# Altium footprint library PCB_Lib.PcbLib: 301 footprints (part 14 of 19)
Each footprint in its own frame and in the unit in brackets; x right, y up, seen from the top. Pads: shape width x height; smd on the part's side, far side on the other; paste and mask are expansions set on the pad; w line width, h text height; cw(c..) or ccw(c..) is an arc to the next point about the centre after c.
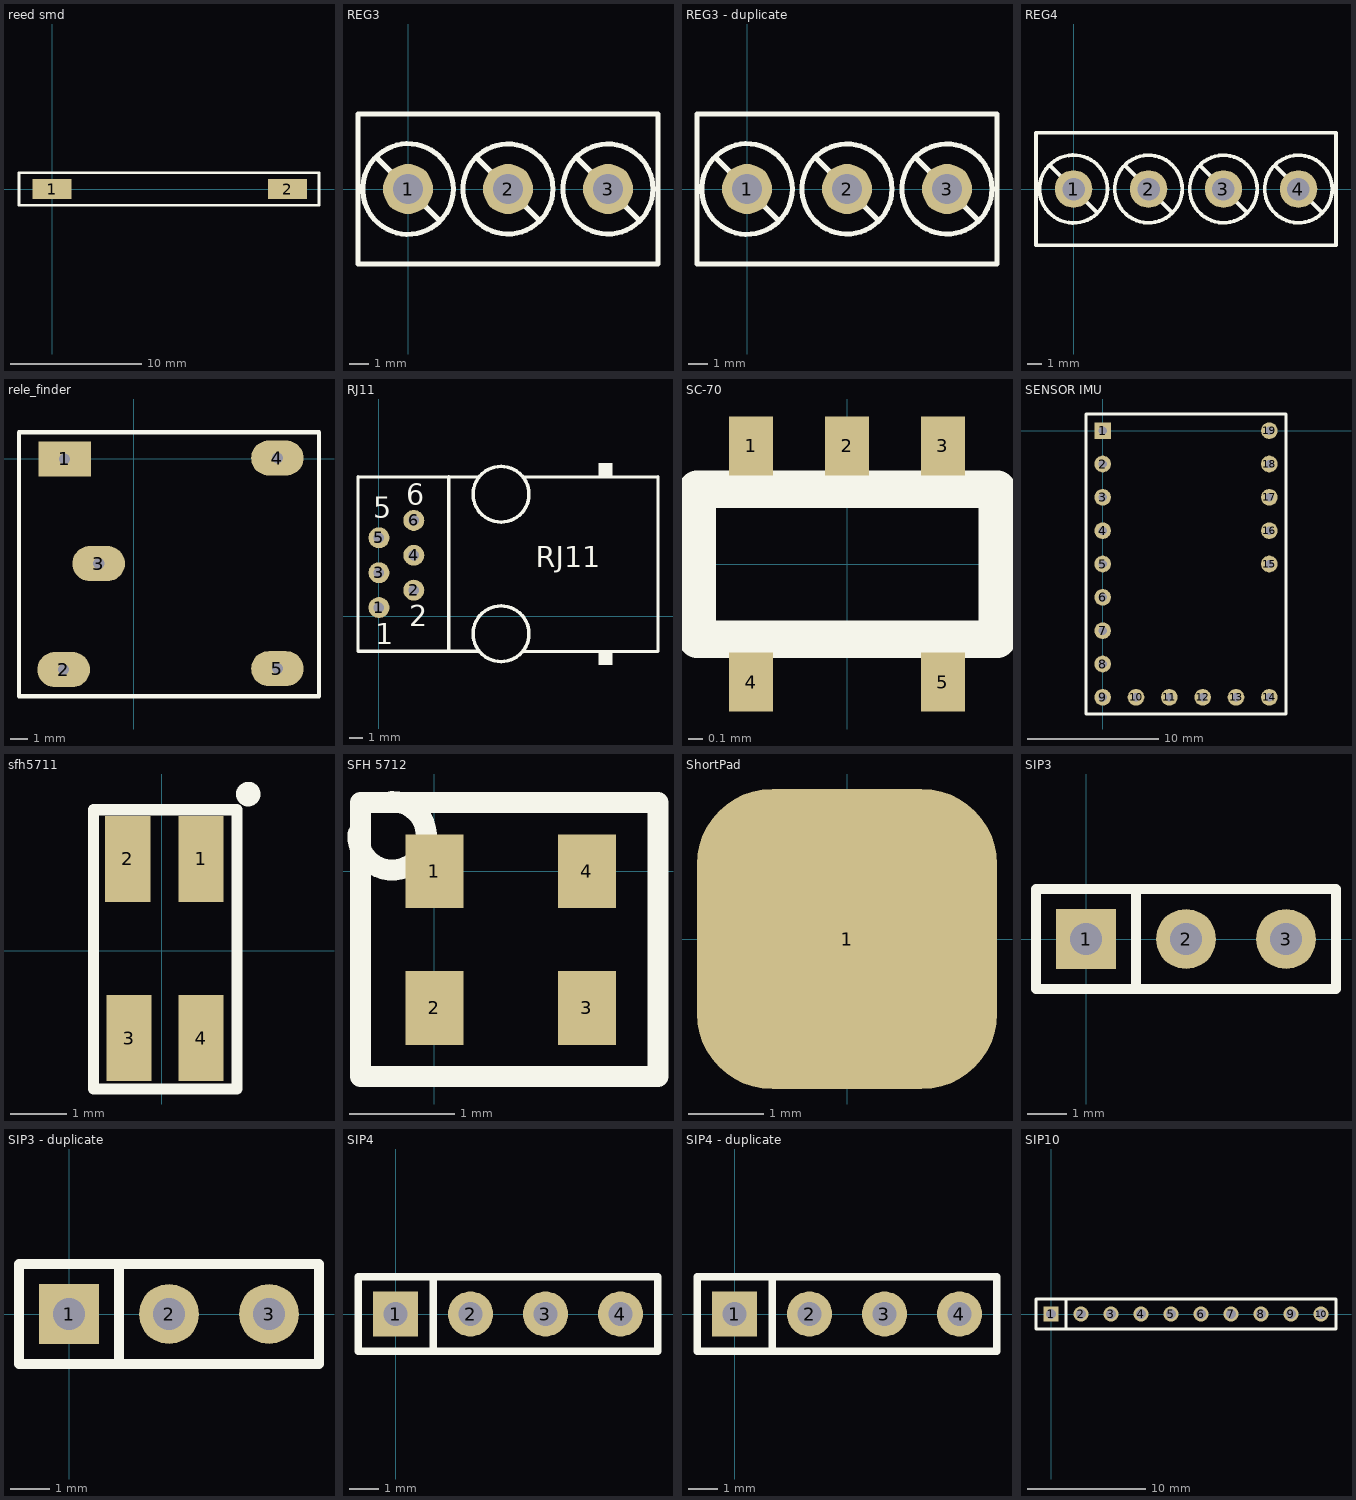
[diagram p13: the footprints below, top view; thin cyan lines are the x and y axes]

## reed smd [mm]
pads (2):
  rect 3x1.5 smd: 1(0,0) 2(18,0)
Top Overlay:
  lines w0.2: -2.525,-1.25 20.4,-1.25 20.4,1.25 8.375,1.25 -2.525,1.25 -2.525,-1.25

## REG3 [mil]
pads (3):
  round 100 hole 60: 1(0,0) 2(200,0) 3(400,0)
Top Overlay:
  circle w10: c200,0 r90
  circle w10: c0,0 r90.55
  circle w10: c400,0 r90
  lines w10: -60,60 0,0 60,-60 ; 140,60 200,0 260,-60 ; 340,60 400,0 460,-60 ; -100,-150 -100,150 500,150 500,-150 -100,-150

## REG3 - duplicate [mil]
pads (3):
  round 100 hole 60: 1(0,0) 2(200,0) 3(400,0)
Top Overlay:
  circle w10: c400,0 r90
  circle w10: c0,0 r90.55
  circle w10: c200,0 r90
  lines w10: -60,60 0,0 60,-60 ; 140,60 200,0 260,-60 ; 340,60 400,0 460,-60 ; -100,-150 500,-150 500,150 -100,150 -100,-150

## REG4 [mil]
pads (4):
  round 100 hole 60: 1(0,0) 2(200,0) 3(400,0) 4(600,0)
Top Overlay:
  circle w10: c200,0 r90
  circle w10: c0,0 r90.55
  circle w10: c400,0 r90
  circle w10: c600,0 r90
  lines w10: -60,60 0,0 60,-60 ; 140,60 200,0 260,-60 ; 340,60 400,0 460,-60 ; 540,60 600,0 660,-60 ; -100,-150 -100,150 700,150 700,-150 -100,-150

## rele_finder [mm]
pads (5):
  rect 3x2 hole 0.635: 1(-3.95,0)
  oval 3x2 hole 0.635: 2(-4,-12.025) 3(-2,-5.975) 4(8.2,0.05) 5(8.2,-11.975)
Top Overlay:
  lines w0.254: -6.55,-13.55 -6.55,1.525 10.575,1.525 10.575,-13.55 -6.55,-13.55

## RJ11 [mil]
pads (6):
  round 60 hole 30: 1(0,25) 2(100,75) 3(0,125) 4(100,175) 5(0,225) 6(100,275)
Top Overlay:
  circle w10: c350,350 r80
  circle w10: c350,-50 r80
  rectangle: 630,400 670,440
  rectangle: 630,-140 670,-100
  lines w10: 200,-100 200,400 ; 286,-100 -60,-100 -60,400 286,399.04 ; 412,-101 800,-100 800,400 417,399.03
  text "RJ11" at 450,140 h60
  text "6" at 79,320 h60
  text "5" at -16,282 h60
  text "1" at -11,-80 h60
  text "2" at 87,-29 h60

## SC-70 [mm] "Encapsulado SC-70 para termistores"
pads (5):
  rect 0.3x0.4 smd: 1(-0.65,0.8) 2(0,0.8) 3(0.65,0.8) 4(-0.65,-0.8) 5(0.65,-0.8)
Top Overlay:
  lines w0.254: -1.016,-0.508 -1.016,0 -1.016,0.508 1.016,0.508 1.016,-0.508 -1.016,-0.508

## SENSOR IMU [mil]
pads (19):
  rect 50x50 hole 25: 1(0,0)
  round 50 hole 25: 2(0,-100) 3(0,-200) 4(0,-300) 5(0,-400) 6(0,-500) 7(0,-600) 8(0,-700) 9(0,-800) 10(100,-800) 11(200,-800) 12(300,-800) 13(400,-800) 14(500,-800) 15(500,-400) 16(500,-300) 17(500,-200) 18(500,-100) 19(500,0)
Top Overlay:
  lines w10: -50,-850 -50,50 275,50 550,50 550,-850 -50,-850

## sfh5711 [mm]
pads (4):
  rect 0.8x1.525 smd: 1(0.7,1.625) 2(-0.6,1.625) 3(-0.575,-1.55) 4(0.7,-1.55)
Top Overlay:
  circle w0.254: c1.535,2.775 r0.09
  lines w0.2: -1.205,-2.45 -1.205,2.5 1.335,2.5 1.335,-2.45 -1.205,-2.45

## SFH 5712 [mm]
pads (4):
  rect 0.55x0.7 smd: 1(0,0) 2(0,-1.3) 3(1.45,-1.3) 4(1.45,0)
Top Overlay:
  lines w0.2: -0.725,0.35 ccw(c-0.4,0.335) -0.4,0.66 ; 0.4,0.65 2.125,0.65 2.125,-1.95 -0.7,-1.95 -0.7,0.65 1.05,0.65

## ShortPad [mm]
pads (1):
  rrect50% 4x4 smd: 1(0,0)

## SIP3 [mil]
pads (3):
  rect 60x60 hole 32: 1(0,0)
  round 60 hole 32: 2(100,0) 3(200,0)
Top Overlay:
  lines w10: 50,-50 50,50 ; -50,-50 -50,50 250,50 250,-50 -50,-50

## SIP3 - duplicate [mil]
pads (3):
  rect 60x60 hole 32: 1(0,0)
  round 60 hole 32: 2(100,0) 3(200,0)
Top Overlay:
  lines w10: 50,-50 50,50 ; -50,-50 250,-50 250,50 -50,50 -50,-50

## SIP4 [mil]
pads (4):
  rect 60x60 hole 32: 1(0,0)
  round 60 hole 32: 2(100,0) 3(200,0) 4(300,0)
Top Overlay:
  lines w10: 50,-50 50,50 ; -50,-50 350,-50 350,50 -50,50 -50,-50

## SIP4 - duplicate [mil]
pads (4):
  rect 60x60 hole 32: 1(0,0)
  round 60 hole 32: 2(100,0) 3(200,0) 4(300,0)
Top Overlay:
  lines w10: 50,-50 50,50 ; -50,-50 -50,50 350,50 350,-50 -50,-50

## SIP10 [mil]
pads (10):
  rect 50x50 hole 32: 1(0,0)
  round 50 hole 32: 2(100,0) 3(200,0) 4(300,0) 5(400,0) 6(500,0) 7(600,0) 8(700,0) 9(800,0) 10(900,0)
Top Overlay:
  lines w10: 50,-50 50,50 ; -50,-50 -50,50 950,50 950,-50 -50,-50